# Altium footprint library SoldeerStation.PcbLib: 35 footprints (part 2 of 3)
Each footprint in its own frame and in the unit in brackets; x right, y up, seen from the top. Pads: shape width x height; smd on the part's side, far side on the other; paste and mask are expansions set on the pad; w line width, h text height; cw(c..) or ccw(c..) is an arc to the next point about the centre after c.
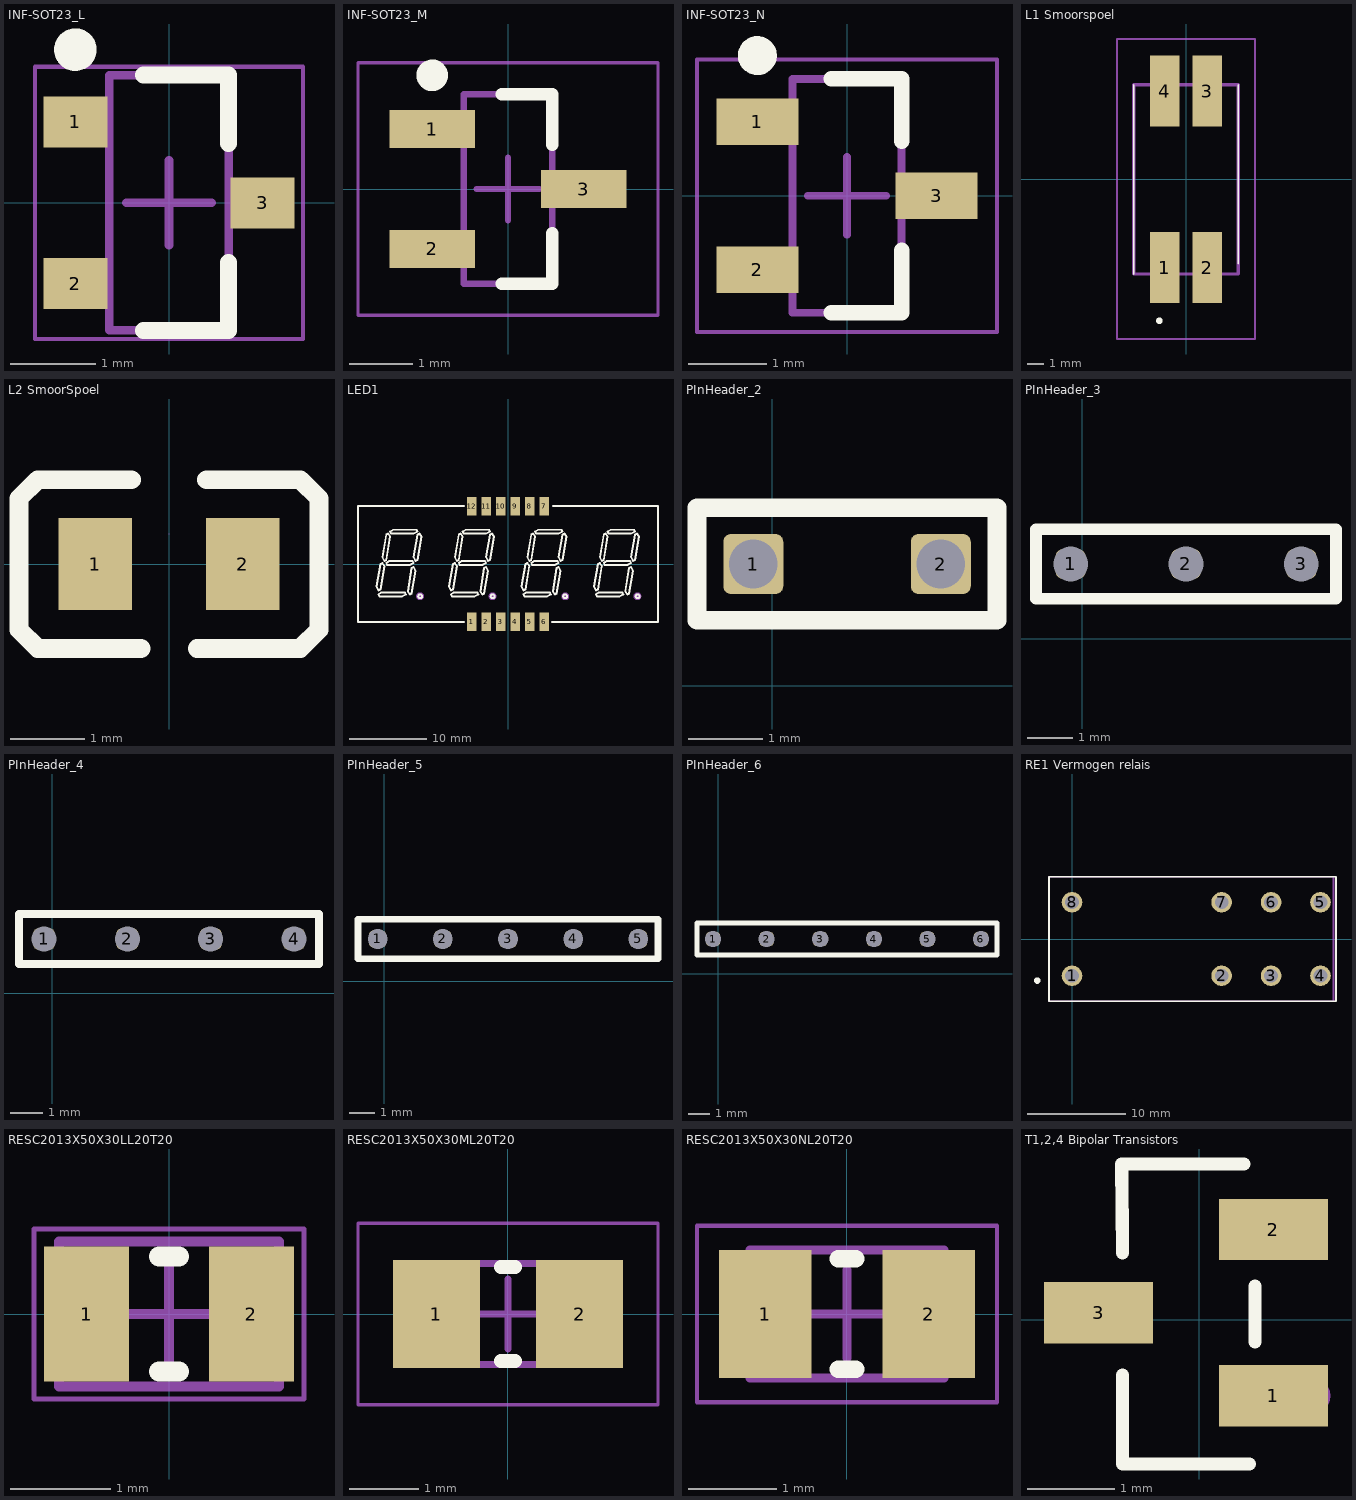
[diagram p1: the footprints below, top view; thin cyan lines are the x and y axes]

## INF-SOT23_L [mm] "SOT23, 3-Leads, Body 2.9x1.3 mm, Pitch 0.95 mm, IPC High Density"
height 1.1
pads (3):
  rect 0.75x0.6 smd: 1(-1.1,0.95) 2(-1.1,-0.95) 3(1.1,0)
Top Overlay:
  circle w0.25: c-1.1,1.8 r0.125
  lines w0.2: -0.3,-1.5 0.7,-1.5 0.7,-0.7 ; -0.3,1.5 0.7,1.5 0.7,0.7
Mechanical 13:
  lines w0.1: -0.7,-1.5 -0.7,1.5 0.7,1.5 0.7,-1.5 -0.7,-1.5
Mechanical 15:
  lines w0.05: -1.575,-1.6 -1.575,1.6 1.575,1.6 1.575,-1.6 -1.575,-1.6
  lines w0.1: -0.5,0 0.5,0 ; 0,-0.5 0,0.5
3D body: height 1.1, standoff 0.1, extent -0.7,-1.5 0.7,1.5

## INF-SOT23_M [mm] "SOT23, 3-Leads, Body 2.9x1.3 mm, Pitch 0.95 mm, IPC Low Density"
height 1.1
pads (3):
  rect 1.35x0.6 smd: 1(-1.2,0.95) 2(-1.2,-0.95) 3(1.2,0)
Top Overlay:
  circle w0.25: c-1.2,1.8 r0.125
  lines w0.2: -0.1,-1.5 0.7,-1.5 0.7,-0.7 ; -0.1,1.5 0.7,1.5 0.7,0.7
Mechanical 13:
  lines w0.1: -0.7,-1.5 -0.7,1.5 0.7,1.5 0.7,-1.5 -0.7,-1.5
Mechanical 15:
  lines w0.05: -2.375,-2 -2.375,2 2.375,2 2.375,-2 -2.375,-2
  lines w0.1: -0.5,0 0.5,0 ; 0,-0.5 0,0.5
3D body: height 1.1, standoff 0.1, extent -0.7,-1.5 0.7,1.5

## INF-SOT23_N [mm] "SOT23, 3-Leads, Body 2.9x1.3 mm, Pitch 0.95 mm, IPC Medium Density"
height 1.1
pads (3):
  rect 1.05x0.6 smd: 1(-1.15,0.95) 2(-1.15,-0.95) 3(1.15,0)
Top Overlay:
  circle w0.25: c-1.15,1.8 r0.125
  lines w0.2: -0.2,-1.5 0.7,-1.5 0.7,-0.7 ; -0.2,1.5 0.7,1.5 0.7,0.7
Mechanical 13:
  lines w0.1: -0.7,-1.5 0.7,-1.5 0.7,1.5 -0.7,1.5 -0.7,-1.5
Mechanical 15:
  lines w0.05: -1.925,-1.75 1.925,-1.75 1.925,1.75 -1.925,1.75 -1.925,-1.75
  lines w0.1: -0.5,0 0.5,0 ; 0,-0.5 0,0.5
3D body: height 1.1, standoff 0.1, extent -0.7,-1.5 0.7,1.5

## L1 Smoorspoel [mm]
pads (4):
  rect 1.78x4.27 smd: 1(-1.27,-5.305) 2(1.27,-5.305) 3(1.27,5.305) 4(-1.27,5.305)
Top Overlay:
  lines w0.1: -3.15,-5.69 -3.15,5.69 ; 3.15,-5.08 3.15,5.69
  lines w0.2: -1.7,-8.5 cw(c-1.6,-8.5) -1.5,-8.5 cw(c-1.6,-8.5) -1.7,-8.5
Mechanical 15:
  lines w0.2: -3.15,-5.69 3.15,-5.69 3.15,5.69 -3.15,5.69 -3.15,-5.69
Bottom Assembly:
  lines w0.1: -4.15,-9.6 4.15,-9.6 4.15,8.44 -4.15,8.44 -4.15,-9.6
3D body "CM2545X171R-10.stp": height 5.8, standoff -4.65, extent -10,-3.376 10,3.376

## L2 SmoorSpoel [mm]
pads (2):
  rect 1x1.25 smd: 1(-1,0) 2(1,0)
Top Overlay:
  lines w0.254: -0.508,1.143 -1.333,1.143 -1.778,1.143 -2.032,0.889 -2.032,-0.889 -1.778,-1.143 -0.381,-1.143 ; 0.381,-1.143 1.778,-1.143 2.032,-0.889 2.032,0.889 1.778,1.143 0.508,1.143
Mechanical 15:
  lines w0.003: 0,0.412 0,0.413

## LED1 [mm] "LED-SEG-SMD_12P-L38.9-W15.0-P1.88-BL"
pads (12):
  rect 1.2x2.4 smd: 1(-4.7,-7.5) 2(-2.82,-7.5) 3(-0.94,-7.5) 4(0.94,-7.5) 5(2.82,-7.5) 6(4.7,-7.5) 7(4.7,7.5) 8(2.82,7.5) 9(0.94,7.5) 10(-0.94,7.5) 11(-2.82,7.5) 12(-4.7,7.5)
Top Overlay:
  drawing of 179 lines, arcs and shapes, not listed
Mechanical 15:
  circle w0.5: c-11.41,-4.19 r0.25
  circle w0.5: c-2.01,-4.19 r0.25
  circle w0.5: c7.41,-4.2 r0.25
  circle w0.5: c16.78,-4.18 r0.25

## PInHeader_2 [mil]
pads (2):
  rrect25% 32x32 hole 26 square: 1(-10,65) 2(90,65)
Top Overlay:
  lines w10: -40,35 120,35 120,95 -40,95 -40,35

## PInHeader_3 [mil]
pads (3):
  rrect50% 26x26 hole 30: 1(-10,65) 2(90,65) 3(190,65)
Top Overlay:
  lines w10: -40,35 220,35 220,95 -40,95 -40,35

## PInHeader_4 [mil]
pads (4):
  rrect50% 26x26 hole 30: 1(-10,65) 2(90,65) 3(190,65) 4(290,65)
Top Overlay:
  lines w10: -40,35 320,35 320,95 -40,95 -40,35

## PInHeader_5 [mil]
pads (5):
  rrect50% 26x26 hole 30: 1(-10,65) 2(90,65) 3(190,65) 4(290,65) 5(390,65)
Top Overlay:
  lines w10: -40,35 420,35 420,95 -40,95 -40,35

## PInHeader_6 [mil]
pads (6):
  rrect50% 26x26 hole 30: 1(-10,65) 2(90,65) 3(190,65) 4(290,65) 5(390,65) 6(490,65)
Top Overlay:
  lines w10: -40,35 520,35 520,95 -40,95 -40,35

## RE1 Vermogen relais [mm] "RT42"
pads (8):
  round 2.1 hole 1.4: 1(0,-3.75) 2(15.26,-3.75) 3(20.3,-3.75) 4(25.34,-3.75) 5(25.34,3.75) 6(20.3,3.75) 7(15.26,3.75) 8(0,3.75)
Top Overlay:
  circle w0.4: c-3.547,-4.246 r0.126
  lines w0.2: -2.35,-6.35 26.924,-6.35 26.924,6.35 -2.35,6.35 -2.35,-6.35
Mechanical 15:
  lines w0.2: -2.35,-6.35 26.65,-6.35 26.65,6.35 -2.35,6.35 -2.35,-6.35
3D body "RT424005F.stp": height 5.8, standoff -4.65, extent -10,-3.376 10,3.376

## RESC2013X50X30LL20T20 [mm] "Chip Resistor, 2-Leads, Body 2.00x1.25mm, IPC High Density"
height 0.5
pads (2):
  rect 0.85x1.35 smd: 1(-0.825,0) 2(0.825,0)
Top Overlay:
  lines w0.2: -0.1,-0.575 0.1,-0.575 ; -0.1,0.575 0.1,0.575
Mechanical 13:
  lines w0.1: -1.1,-0.725 1.1,-0.725 1.1,0.725 -1.1,0.725 -1.1,-0.725
Mechanical 15:
  lines w0.05: -1.35,-0.85 1.35,-0.85 1.35,0.85 -1.35,0.85 -1.35,-0.85
  lines w0.1: -0.5,0 0.5,0 ; 0,-0.5 0,0.5
3D body: height 0.5, standoff 0, extent 0.8,-0.725 1.1,0.725
3D body: height 0.5, standoff 0, extent -1.1,-0.725 -0.8,0.725
3D body: height 0.5, standoff 0, extent -0.8,-0.725 0.8,0.725

## RESC2013X50X30ML20T20 [mm] "Chip Resistor, 2-Leads, Body 2.00x1.25mm, IPC Low Density"
height 0.5
pads (2):
  rect 1.25x1.55 smd: 1(-1.025,0) 2(1.025,0)
Top Overlay:
  lines w0.2: -0.1,-0.675 0.1,-0.675 ; -0.1,0.675 0.1,0.675
Mechanical 13:
  lines w0.1: -1.1,-0.725 1.1,-0.725 1.1,0.725 -1.1,0.725 -1.1,-0.725
Mechanical 15:
  lines w0.05: -2.15,-1.3 2.15,-1.3 2.15,1.3 -2.15,1.3 -2.15,-1.3
  lines w0.1: -0.5,0 0.5,0 ; 0,-0.5 0,0.5
3D body: height 0.5, standoff 0, extent 0.8,-0.725 1.1,0.725
3D body: height 0.5, standoff 0, extent -1.1,-0.725 -0.8,0.725
3D body: height 0.5, standoff 0, extent -0.8,-0.725 0.8,0.725

## RESC2013X50X30NL20T20 [mm] "Chip Resistor, 2-Leads, Body 2.00x1.25mm, IPC Medium Density"
height 0.5
pads (2):
  rect 1.05x1.45 smd: 1(-0.925,0) 2(0.925,0)
Top Overlay:
  lines w0.2: -0.1,-0.625 0.1,-0.625 ; -0.1,0.625 0.1,0.625
Mechanical 13:
  lines w0.1: -1.1,-0.725 -1.1,0.725 1.1,0.725 1.1,-0.725 -1.1,-0.725
Mechanical 15:
  lines w0.05: -1.7,-1 -1.7,1 1.7,1 1.7,-1 -1.7,-1
  lines w0.1: -0.5,0 0.5,0 ; 0,-0.5 0,0.5
3D body: height 0.5, standoff 0, extent -0.8,-0.725 0.8,0.725
3D body: height 0.5, standoff 0, extent -1.1,-0.725 -0.8,0.725
3D body: height 0.5, standoff 0, extent 0.8,-0.725 1.1,0.725

## T1,2,4 Bipolar Transistors [mm] "BC847C"
pads (3):
  rect 1.25x0.7 smd: 1(0.847,-0.872) 2(0.847,1.028) 3(-1.153,0.078)
Top Overlay:
  lines w0.152: -0.879,-0.635 -0.879,-1.651 0.573,-1.651 ; -0.879,0.762 -0.889,1.778 0.508,1.778 ; 0.635,-0.254 0.635,0.381
Mechanical 15:
  circle w0.2: c1.297,-0.872 r0.1